# Altium schematic symbol library Crystals.SchLib: 4 symbols
Pins are listed as number, name and electrical type; pins without a type are passive.

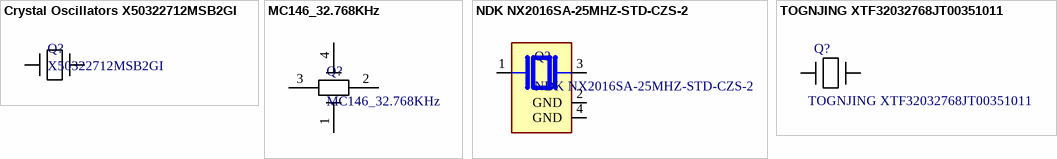
[diagram p0: symbols Crystal Oscillators X50322712MSB2GI to TOGNJING XTF32032768JT00351011]

## Crystal Oscillators X50322712MSB2GI
designator Q?, comment X50322712MSB2GI
Crystal 27.12MHz ±10ppm 20pF SMD5032-2P; note: Original; sample link: https://www.lcsc.com/product-detail/C157343.html; val: X50322712MSB2GI; unit price: $ 0.2492
footprint SMD5032-2P
pins: 1, 2

## MC146_32.768KHz
designator Q?
note: Original; val: MC-146 32.7680KA-A0:ROHS; sample link: https://www.lcsc.com/product-detail/Crystals_Seiko-SSP-T7-F-32-768kHz-20PPM7pF_C108685.html; unit price: $ 0.1761
footprint MC146_Crystal (Chip Capacitor, 2-Leads, Body 1,53x0,77mm, IPC Medium Density)
pins: 1, 2, 3, 4

## NDK NX2016SA-25MHZ-STD-CZS-2
designator Q?
8pF ±15ppm SMD2016-4P Crystals RoHS; val: NDK NX2016SA-25MHZ-STD-CZS-2; note: *; sample link: https://www.lcsc.com/product-detail/C843258.html?spm=wm.fly.bg.0.xh___wm.sxq.ssx.spl&lcsc_vid=RVhdAVNUQwAIV1dSEwBWUF1URFhWXgYERVENVQEAQVExVlNRT1ZdUlFSR1VdXzsOAxUeFF5JWBYZEEoKFBINSQcJGk4eFQsCAgIaSgADAwAHC0slRlZfU1JIHxUDCw%3D%3D; unit price: $ 0.4359
footprint NDK NX2016SA-25MHZ-STD-CZS-2
pins: 1, 2 GND (power), 3 2, 4 GND (power)

## TOGNJING XTF32032768JT00351011
designator Q?
32.768 kHz Â±20ppm Crystal 12.5pF 70 kOhms 2-SMD, No Lead; note: Original; val: TOGNJING XTF32032768JT00351011; sample link: https://www.lcsc.com/product-detail/C37635363.html; unit price: $ 0.1399
footprint XTAL_3215
pins: 1, 2